# Altium schematic symbol library A000067.SchLib: 1 symbol
Pins are listed as number, name and electrical type; pins without a type are passive.

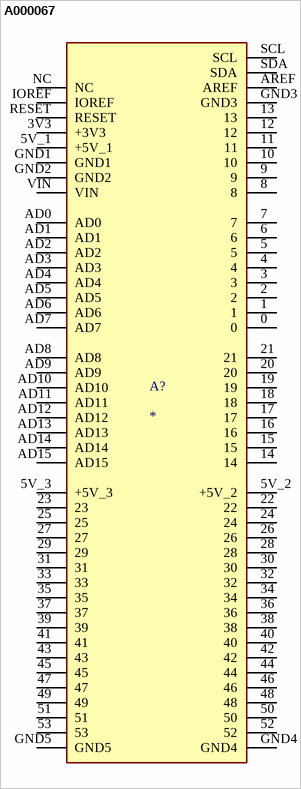
[diagram p0: symbol A000067]

## A000067
designator A?
8-bit board with 54 digital pins, 16 analog inputs, and 4 serial ports.; MF: Arduino; MP: Arduino Mega 2560 Rev3; SnapEDA_Link: https://www.snapeda.com/parts/Arduino%20Mega%202560%20Rev3/Arduino/view-part/?ref=snap; Package: Non-Standard Arduino; Value: *; Check_prices: https://www.snapeda.com/parts/Arduino%20Mega%202560%20Rev3/Arduino/view-part/?ref=eda
footprint ARDUINO_A000067
pins: 0, 1, 2, 3, 3V3 +3V3, 4, 5, 5V_1 +5V_1, 5V_2 +5V_2, 5V_3 +5V_3, 6, 7, 8, 9, 10, 11, 12, 13, 14, 15, 16, 17, 18, 19, 20, 21, 22, 23, 24, 25, 26, 27, 28, 29, 30, 31, 32, 33, 34, 35, 36, 37, 38, 39, 40, 41, 42, 43, 44, 45, 46, 47, 48, 49, 50, 51, 52, 53, AD0, AD1, AD2, AD3, AD4, AD5, AD6, AD7, AD8, AD9, AD10, AD11, AD12, AD13, AD14, AD15, AREF, GND1, GND2, GND3, GND4, GND5, IOREF, NC, RESET, SCL, SDA, VIN